# EAGLE library part FLYPORT (library FlyPort)
PIN HEADER
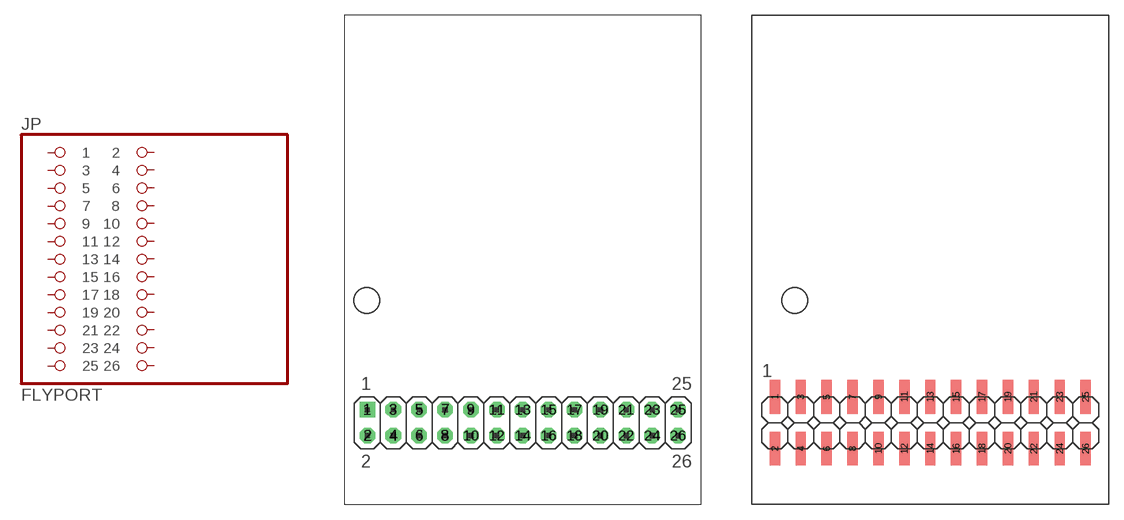
[diagram p0: symbol with the pads of PINHEAD_2X13; footprints PINHEAD_2X13, PINHEAD-2_2X13SMD]

Designator prefix JP

## FLYPORT  [PINHEAD_2X13]
1  1  pas
2  2  pas
3  3  pas
4  4  pas
5  5  pas
6  6  pas
7  7  pas
8  8  pas
9  9  pas
10  10  pas
11  11  pas
12  12  pas
13  13  pas
14  14  pas
15  15  pas
16  16  pas
17  17  pas
18  18  pas
19  19  pas
20  20  pas
21  21  pas
22  22  pas
23  23  pas
24  24  pas
25  25  pas
26  26  pas

## FLYPORTSMD  [PINHEAD-2_2X13SMD]
Pads as for PINHEAD_2X13

## Footprint PINHEAD_2X13 (pad centres in mm)
PIN HEADER
drill 1.016 square: 1 -15.24,1.27
drill 1.016 octagon: 2 -15.24,-1.27; 3 -12.7,1.27; 4 -12.7,-1.27; 5 -10.16,1.27; 6 -10.16,-1.27; 7 -7.62,1.27; 8 -7.62,-1.27; 9 -5.08,1.27; 10 -5.08,-1.27; 11 -2.54,1.27; 12 -2.54,-1.27; 13 0,1.27; 14 0,-1.27; 15 2.54,1.27; 16 2.54,-1.27; 17 5.08,1.27; 18 5.08,-1.27; 19 7.62,1.27; 20 7.62,-1.27; 21 10.16,1.27; 22 10.16,-1.27; 23 12.7,1.27; 24 12.7,-1.27; 25 15.24,1.27; 26 15.24,-1.27

## Footprint PINHEAD-2_2X13SMD (pad centres in mm)
PIN HEADER - 2.54 SMD
smd 1.016 x 3.302: 1 -15.24,2.54; 2 -15.24,-2.54; 3 -12.7,2.54; 4 -12.7,-2.54; 5 -10.16,2.54; 6 -10.16,-2.54; 7 -7.62,2.54; 8 -7.62,-2.54; 9 -5.08,2.54; 10 -5.08,-2.54; 11 -2.54,2.54; 12 -2.54,-2.54; 13 0,2.54; 14 0,-2.54; 15 2.54,2.54; 16 2.54,-2.54; 17 5.08,2.54; 18 5.08,-2.54; 19 7.62,2.54; 20 7.62,-2.54; 21 10.16,2.54; 22 10.16,-2.54; 23 12.7,2.54; 24 12.7,-2.54; 25 15.24,2.54; 26 15.24,-2.54